# Altium schematic symbol library LM2599T-ADJ.SchLib: 1 symbol
Pins are listed as number, name and electrical type; pins without a type are passive.

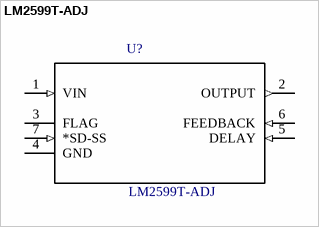
[diagram p0: symbol LM2599T-ADJ]

## LM2599T-ADJ
designator U?
/ 7 pin SIMPLE SWITCHER Power Converter 150 KHz 3A Step-Down Voltage Regulator with Features 45 per tube /; MF: Texas Instruments; Package: TO-220 Texas Instruments; MP: LM2599T-ADJ; Price: None; Availability: Unavailable; SnapEDA_Link: https://www.snapeda.com/parts/LM2599T-ADJ/Texas%20Instruments/view-part/?ref=snap; Value: *
footprint *TO127P470X1016X1740-7P
pins: 1 VIN (in), 2 OUTPUT (out), 3 FLAG, 4 GND, 5 DELAY (in), 6 FEEDBACK (in), 7 *SD-SS (in)